# EAGLE library part DAC8551 (library uBraids_SE)
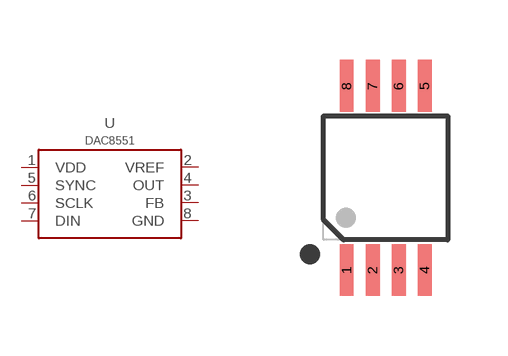
[diagram p1: symbol with the pads of VSSOP-8; footprint VSSOP-8]

Designator prefix -

## DAC8551-VSSOP-8  [VSSOP-8]
1  VDD
2  VREF
3  FB
4  OUT
5  SYNC
6  SCLK
7  DIN
8  GND

## Footprint VSSOP-8 (pad centres in mm)
smd 0.35 x 1.3: 1 -0.975,-2.3; 2 -0.325,-2.3; 3 0.325,-2.3; 4 0.975,-2.3; 5 0.975,2.3; 6 0.325,2.3; 7 -0.325,2.3; 8 -0.975,2.3